# Altium schematic symbol library Inductor Isolated.Schlib: 1 symbol
Pins are listed as number, name and electrical type; pins without a type are passive.

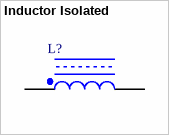
[diagram p0: symbol Inductor Isolated]

## Inductor Isolated
designator L?
Isolated Inductor
pins: 1, 2